# Altium schematic symbol library Batt.SchLib: 1 symbol
Pins are listed as number, name and electrical type; pins without a type are passive.

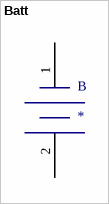
[diagram p0: symbol Batt]

## Batt
designator B
footprint Batt
pins: 1 +, 2 -